# EAGLE library part DMP266LDM (library kwoo)
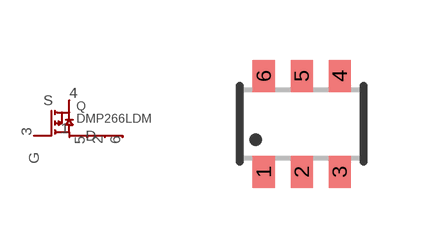
[diagram p21: symbol with the pads of SOT26; footprint SOT26]

Designator prefix Q

## DMP266LDM  [SOT26]
1  D
2  D2
3  G
4  S
5  D3
6  D4

## Footprint SOT26 (pad centres in mm)
smd 0.55 x 0.8: 1 -0.95,-1.2; 2 0,-1.2; 3 0.95,-1.2; 4 0.95,1.2; 5 0,1.2; 6 -0.95,1.2